# EAGLE library part LIS331HH (library Compass)
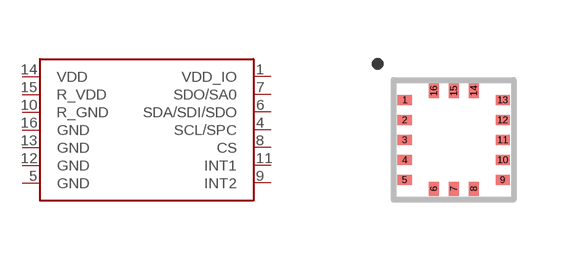
[diagram p2: symbol with the pads of LGA-16(3X3X1); footprint LGA-16(3X3X1)]

Designator prefix -

## LIS331HH  [LGA-16(3X3X1)]
1  VDD_IO
4  SCL/SPC
5  GND
6  SDA/SDI/SDO
7  SDO/SA0
8  CS
9  INT2
10  R_GND
11  INT1
12  GND
13  GND
14  VDD
15  R_VDD
16  GND

## Footprint LGA-16(3X3X1) (pad centres in mm)
smd 0.35 x 0.25: 1 -1.225,1; 2 -1.225,0.5; 3 -1.225,0; 4 -1.225,-0.5; 5 -1.225,-1; 9 1.225,-1; 10 1.225,-0.5; 11 1.225,0; 12 1.225,0.5; 13 1.225,1
smd 0.25 x 0.35: 6 -0.5,-1.225; 7 0,-1.225; 8 0.5,-1.225; 14 0.5,1.225; 15 0,1.225; 16 -0.5,1.225